# Altium footprint library PROC051C_PCB.PcbLib: 65 footprints (part 5 of 5)
Each footprint in its own frame and in the unit in brackets; x right, y up, seen from the top. Pads: shape width x height; smd on the part's side, far side on the other; paste and mask are expansions set on the pad; w line width, h text height; cw(c..) or ccw(c..) is an arc to the next point about the centre after c.
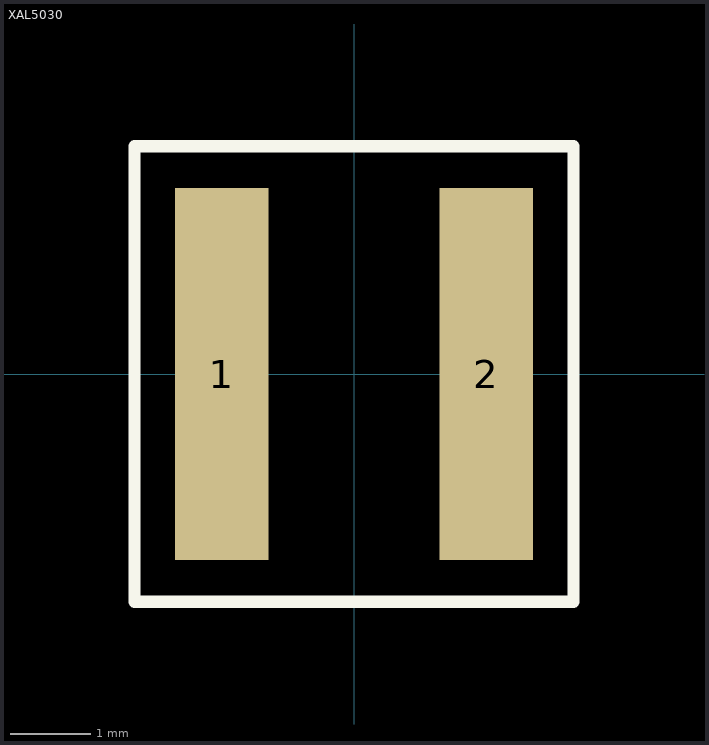
[diagram p4: the footprint, top view; thin cyan lines are the x and y axes]

## XAL5030 [mil] "Coilcraft XAL5030 12/12/11"
height 122.05
pads (2):
  rect 46x183 smd: 1(-65,0) 2(65,0)
Top Overlay:
  lines w6: -108,-112 108,-112 108,112 -108,112 -108,-112
Mechanical 5:
  lines w5: -108,-112 108,-112 108,112 -108,112 -108,-112
  text ".Designator" at 19.55,17.8 h40
3D body: height 122.1, standoff 80, extent 70.02,-49.98 79.98,49.98
3D body: height 122.05, standoff 0, extent -107.98,-111.98 107.98,111.98